# EAGLE library part ADS7843 (library ads7843)
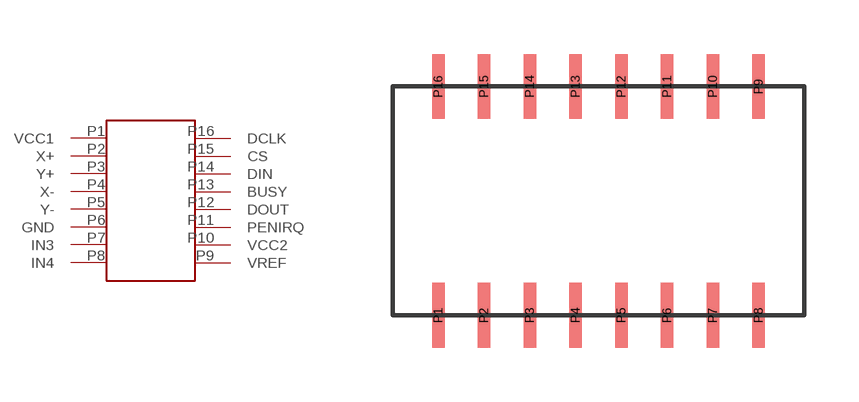
[diagram p0: symbol with the pads of ADS7843; footprint ADS7843]

Designator prefix -

## ADS7843  [ADS7843]
P1  VCC1
P2  X+
P3  Y+
P4  X-
P5  Y-
P6  GND
P7  IN3
P8  IN4
P9  VREF
P10  VCC2
P11  PENIRQ
P12  DOUT
P13  BUSY
P14  DIN
P15  CS
P16  DCLK

## Footprint ADS7843 (pad centres in mm)
smd 0.35 x 1.8: P1 -3.81,-3.81; P2 -2.54,-3.81; P3 -1.27,-3.81; P4 0,-3.81; P5 1.27,-3.81; P6 2.54,-3.81; P7 3.81,-3.81; P8 5.08,-3.81; P9 5.08,2.54; P10 3.81,2.54; P11 2.54,2.54; P12 1.27,2.54; P13 0,2.54; P14 -1.27,2.54; P15 -2.54,2.54; P16 -3.81,2.54